# EAGLE library part BQ27421-G1 (library Eric Navarrete Custom Parts Feb 2019)
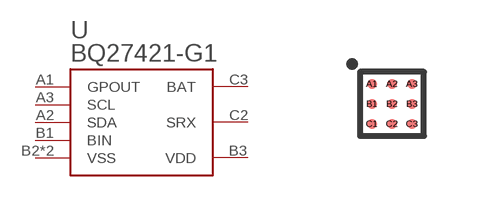
[diagram p8: symbol with the pads of YZF(9); footprint YZF(9)]

Designator prefix U

## BQ27421-G1  [YZF(9)]
A1  GPOUT
A2  SDA
A3  SCL
B1  BIN
B2  VSS
B3  VDD
C1  VSS
C2  SRX
C3  BAT

## Footprint YZF(9) (pad centres in mm)
smd 0.25 x 0.25: A1 -0.5,0.5; A2 0,0.5; A3 0.5,0.5; B1 -0.5,0; B2 0,0; B3 0.5,0; C1 -0.5,-0.5; C2 0,-0.5; C3 0.5,-0.5